# EAGLE library part 62403221722 (library WR-WTB)
WR-WTB 2.00 mm Male Dual Row Horizontal Shrouded Header w. positive locking Material Properties Insulator Material PBT Insulator Flammability Rating UL94 V-0 Color White Contact Material Copper Alloy Contact Plating Tin Contact Type Stamped Certification UL Approval E323964 General Information Operating Temperature -25 °C up to +85 °C Compliance RoHS IR 3 A Working Voltage 250 V (AC) Withstanding Voltage 1000 V (AC) Contact Resistance 20 mΩ RISO 1000 MΩ Pitch 2 mm Gender Male Type Horizontal Packaging Properties Packaging Tube <https://www.we-online.com/components/media/o33359v209%20Family_WR-WTB_6240xx21722.jpg> Details see: www.we-online.com/en/components/products/WTB_2_00_MALE_DUAL_ROW_HORIZONTAL_SHROUDED_HEADER_W_POSITIVE_LOCKING_6240XX21722 <www.we-online.com/catalog/WTB_2_00_MALE_DUAL_ROW_HORIZONTAL_SHROUDED_HEADER_W_POSITIVE_LOCKING_6240XX21722/?utm_source=eagle_model&utm_medium=description_link&utm_campaign=eisos_eagle> Updated by Ella 2025-03-06 2025 (C) Würth Elektronik
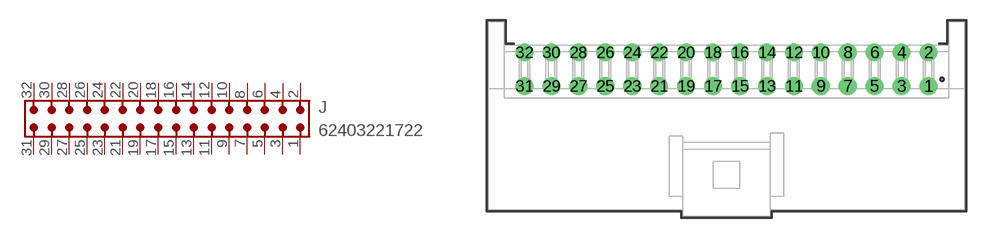
[diagram p83: symbol with the pads of 62403221722; footprint 62403221722]

Designator prefix J

## 62403221722 (CONTACT-RESISTANCE: 20mOhm; DATASHEET-URL: https://www.we-online.com/redexpert/spec/62403221722?ae; GENDER: Male; IR: 3A; L: 35.4mm; MOUNT: THT; PACKAGING: Tube; PART-NUMBER: 62403221722; PCB-CABLE-PANEL: PCB; PINS: 32; PITCH: 2mm; TYPE: Horizontal; VALUE: 62403221722; WORKING-VOLTAGE: 250V(AC))  [62403221722]
1  1  pas
2  2  pas
3  3  pas
4  4  pas
5  5  pas
6  6  pas
7  7  pas
8  8  pas
9  9  pas
10  10  pas
11  11  pas
12  12  pas
13  13  pas
14  14  pas
15  15  pas
16  16  pas
17  17  pas
18  18  pas
19  19  pas
20  20  pas
21  21  pas
22  22  pas
23  23  pas
24  24  pas
25  25  pas
26  26  pas
27  27  pas
28  28  pas
29  29  pas
30  30  pas
31  31  pas
32  32  pas

## Footprint 62403221722 (pad centres in mm)
WR-WTB 2.00 mm Male Dual Row Horizontal Shrouded Header w. positive locking, 32 pins
drill 0.8: 1 15,2.2; 2 15,4.7; 3 13,2.2; 4 13,4.7; 5 11,2.2; 6 11,4.7; 7 9,2.2; 8 9,4.7; 9 7,2.2; 10 7,4.7; 11 5,2.2; 12 5,4.7; 13 3,2.2; 14 3,4.7; 15 1,2.2; 16 1,4.7; 17 -1,2.2; 18 -1,4.7; 19 -3,2.2; 20 -3,4.7; 21 -5,2.2; 22 -5,4.7; 23 -7,2.2; 24 -7,4.7; 25 -9,2.2; 26 -9,4.7; 27 -11,2.2; 28 -11,4.7; 29 -13,2.2; 30 -13,4.7; 31 -15,2.2; 32 -15,4.7